# Altium integrated library CON-SIP.IntLib: 3 symbols
Pins are listed as number, name and electrical type; pins without a type are passive.

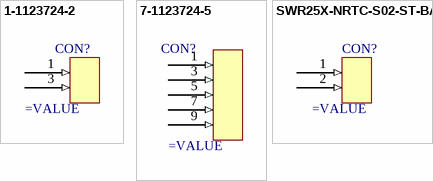
[diagram p0: symbols 1-1123724-2 to SWR25X-NRTC-S02-ST-BA]

## 1-1123724-2
designator CON?
Headers & Wire Housings HEADER 312 VERT 2P HDR .312 VERT 2P TIN; Manufacturer: TE Connectivity; Manufacturer Part Number: 1-1123724-2; Number of Contacts: 3; Max Voltage Rating (AC): 250V; Contact Current Rating: 8A; Current Rating: 7.5A; Sealable: No (Without); Contact Resistance: 20mR; Max Voltage Rating (DC): 250.25kV; Number of Ports: 1; Plating Thickness: 0.8um; Supplier 1: Digi-Key; Supplier Part Number 1: A106608-ND; Stock 1: 26487; Pricing 1: 1=0.18, 10=0.165, 100=0.1143, 500=0.0967, 1000=0.0792, 5000=0.0704, 10000=0.0638 (USD); Mount: Through Hole; Colour: Natural; Housing Colour: Natural; Material: Brass; Contact Plating: Tin; Number of Terminals: 3; Min Operating Temperature: -25°C; Max Operating Temperature: 105°C; Fastening Type: Ramp; Termination: Solder; Orientation: Straight; Voltage Rating: 250V; Depth: 8.5mm; Contact Mating Length: 0.303inch; Radiation Hardening: No; ELV: Compliant; Lead Free: Lead Free; Flammability Rating: UL94 V-0; ComponentLink1URL: https://datasheet.ciiva.com/15191/getdatasheetpartid-316632-15191323.pdf; ComponentLink1Description: https://datasheet.ciiva.com/15191/getdatasheetpartid-316632-15191323.pdf; Description 1: Headers & Wire Housings HEADER 312 VERT 2P HDR .312 VERT 2P TIN
footprint 1-1123724-2
pins: 1 (in), 3 (in)

## 7-1123724-5
designator CON?
3.96EP HDR ASSY 5(9)P NATURAL; Manufacturer: TE Connectivity; Manufacturer Part Number: 7-1123724-5; Number of Positions Loaded: 5; Sealable: No (Without); Contact Current Rating: 8A; Supplier 1: Digi-Key; Supplier Part Number 1: A117729-ND; Stock 1: 5382; Pricing 1: 1=0.37, 10=0.346, 100=0.2425, 500=0.2079, 1000=0.1732, 5000=0.1485, 10000=0.1386 (USD); Mount: Through Hole; Colour: Natural; Contact Plating: Tin; Housing Colour: Natural; Min Operating Temperature: -25°C; Max Operating Temperature: 105°C; Fastening Type: Ramp; Termination: Solder; Orientation: Vertical; Contact Mating Length: 0.303inch; ELV: Compliant; Flammability Rating: UL94 V-0; ComponentLink1URL: https://datasheet.ciiva.com/29152/eng-cd-1123724-c4-29152218.pdf; ComponentLink1Description: https://datasheet.ciiva.com/29152/eng-cd-1123724-c4-29152218.pdf; Description 1: 3.96EP HDR ASSY 5(9)P NATURAL
footprint 7-1123724-5 (3.96EP HDR ASSY 5(9)P NATURAL)
pins: 1 (in), 3 (in), 5 (in), 7 (in), 9 (in)

## SWR25X-NRTC-S02-ST-BA
designator CON?
CONN HDR .100" SNGL PCB 2POS; Manufacturer: Sullins; Manufacturer Part Number: SWR25X-NRTC-S02-ST-BA; Number of Positions: 2; Connector Type: Male Pin; Pitch: 0.1inch; Supplier 1: Digi-Key; Supplier Part Number 1: S9407-ND; Stock 1: 7751; Pricing 1: 1=0.12, 10=0.11, 100=0.0679, 500=0.0562, 1000=0.0491, 5000=0.0421, 10000=0.041 (USD); Mount: Through Hole; Colour: Beige; Contact Plating: Tin; Package Quantity: 2000; Number of Rows: 1; Packaging: Bulk; Termination: Solder; Contact Mating Length: 0.303inch; Lead Free: Lead Free; ComponentLink1URL: https://datasheet.ciiva.com/740/swr25x-nrtc-sxx-st-ba-740720.pdf; ComponentLink1Description: https://datasheet.ciiva.com/740/swr25x-nrtc-sxx-st-ba-740720.pdf
footprint SWR25X-NRTC-S02-ST-BA
pins: 1 (in), 2 (in)